# EAGLE library part RT4533GJ6 (library ICs)
LED Driver IC 1 Output DC DC Regulator Step-Up (Boost) PWM Dimming 1.2A (Switch) TSOT-23-6
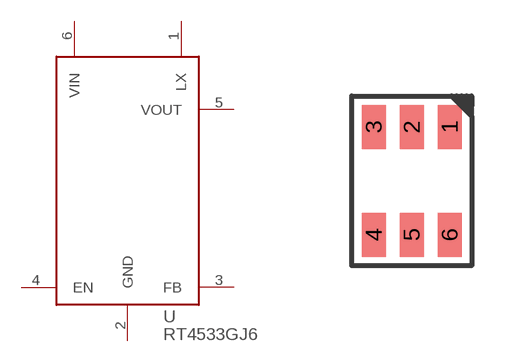
[diagram p302: symbol with the pads of SOT23-6; footprint SOT23-6]

Designator prefix U

## RT4533GJ6 (DIGIKEY: 1028-RT4533GJ6CT-ND; HEIGHT: 1; PRICE_PER: 0.52; VALUE: RT4533GJ6)  [SOT23-6]
1  LX
2  GND
3  FB
4  EN
5  VOUT
6  VIN

## Footprint SOT23-6 (pad centres in mm)
smd 0.6 x 1.1: 1 0.95,1.35; 2 0,1.35; 3 -0.95,1.35; 4 -0.95,-1.35; 5 0,-1.35; 6 0.95,-1.35